# Altium schematic symbol library pic.SchLib: 4 symbols
Pins are listed as number, name and electrical type; pins without a type are passive.

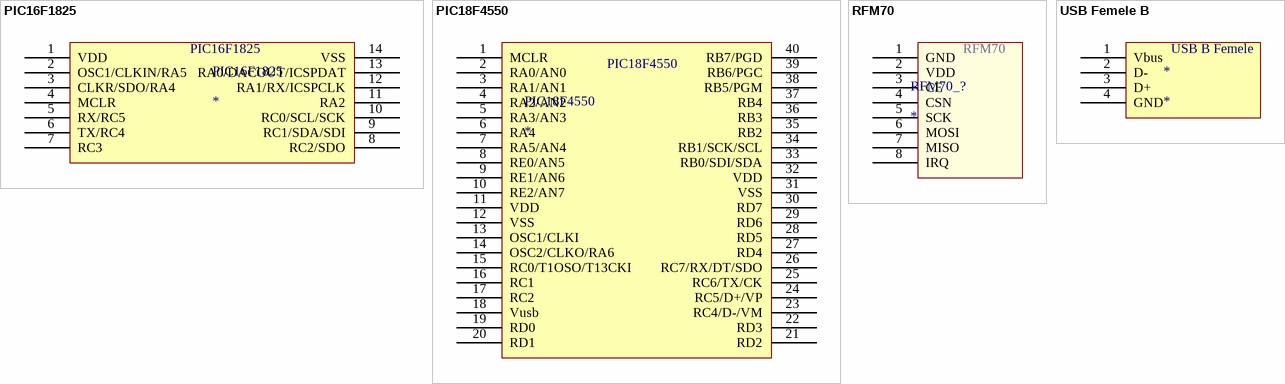
[diagram p0: symbols PIC16F1825 to USB Femele B]

## PIC16F1825
designator PIC16F1825
footprint PIC16F1825
pins: 1 VDD, 2 OSC1/CLKIN/RA5, 3 CLKR/SDO/RA4, 4 MCLR, 5 RX/RC5, 6 TX/RC4, 7 RC3, 8 RC2/SDO, 9 RC1/SDA/SDI, 10 RC0/SCL/SCK, 11 RA2, 12 RA1/RX/ICSPCLK, 13 RA0/DACOUT/ICSPDAT, 14 VSS

## PIC18F4550
designator PIC18F4550
footprint pic18F4550 - duplicate
pins: 1 MCLR, 2 RA0/AN0, 3 RA1/AN1, 4 RA2/AN2, 5 RA3/AN3, 6 RA4, 7 RA5/AN4, 8 RE0/AN5, 9 RE1/AN6, 10 RE2/AN7, 11 VDD, 12 VSS, 13 OSC1/CLKI, 14 OSC2/CLKO/RA6, 15 RC0/T1OSO/T13CKI, 16 RC1, 17 RC2, 18 Vusb, 19 RD0, 20 RD1, 21 RD2, 22 RD3, 23 RC4/D-/VM, 24 RC5/D+/VP, 25 RC6/TX/CK, 26 RC7/RX/DT/SDO, 27 RD4, 28 RD5, 29 RD6, 30 RD7, 31 VSS, 32 VDD, 33 RB0/SDI/SDA, 34 RB1/SCK/SCL, 35 RB2, 36 RB3, 37 RB4, 38 RB5/PGM, 39 RB6/PGC, 40 RB7/PGD

## RFM70
designator RFM70_?
footprint RFM70
pins: 1 GND, 2 VDD, 3 CE, 4 CSN, 5 SCK, 6 MOSI, 7 MISO, 8 IRQ

## USB Femele B
designator *
footprint USB-B
pins: 1 Vbus, 2 D-, 3 D+, 4 GND
text: USB B Femele